# Altium footprint library DB2431200L.PcbLib: 1 footprints
Each footprint in its own frame and in the unit in brackets; x right, y up, seen from the top. Pads: shape width x height; smd on the part's side, far side on the other; paste and mask are expansions set on the pad; w line width, h text height; cw(c..) or ccw(c..) is an arc to the next point about the centre after c.
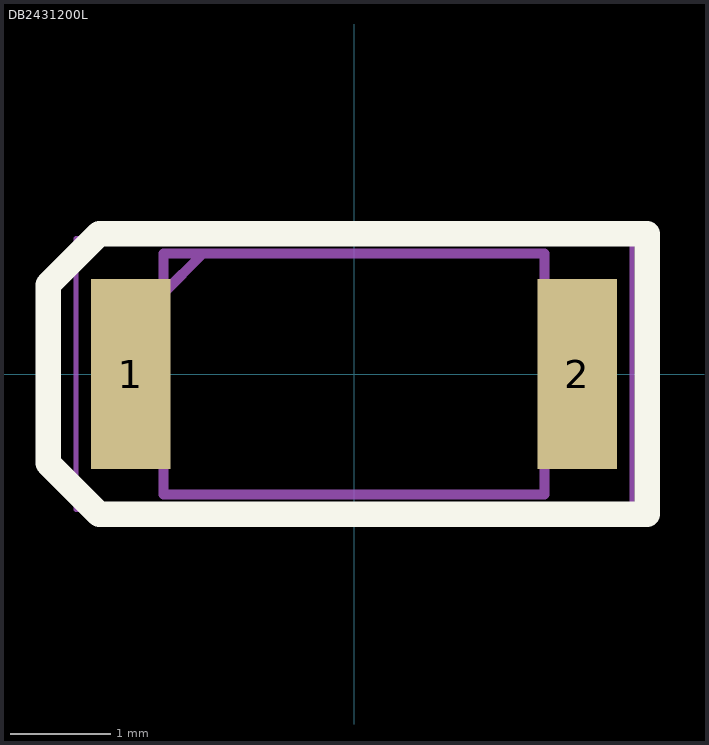
[diagram p0: the footprint, top view; thin cyan lines are the x and y axes]

## DB2431200L [mm]
pads (2):
  rect 0.79x1.89 smd: 1(-2.225,0) 2(2.225,0)
Top Overlay:
  lines w0.254: -3.048,-0.889 -3.048,0.889 -2.54,1.397 2.921,1.397 2.921,-1.397 -2.54,-1.397 -3.048,-0.889
Mechanical 13:
  lines w0.1: -1.9,0.805 -1.505,1.2 ; -1.9,-1.2 -1.9,1.2 1.9,1.2 1.9,-1.2 -1.9,-1.2
Mechanical 15:
  lines w0.05: -2.77,-1.35 -2.77,1.35 2.77,1.35 2.77,-1.35 -2.77,-1.35
3D body "DB2431200L.stp": height 0.85, standoff 0, extent -2.35,-1.2 2.35,1.2